# EAGLE library part TC2050-IDC-NL (library RoboJackets-Connectors)
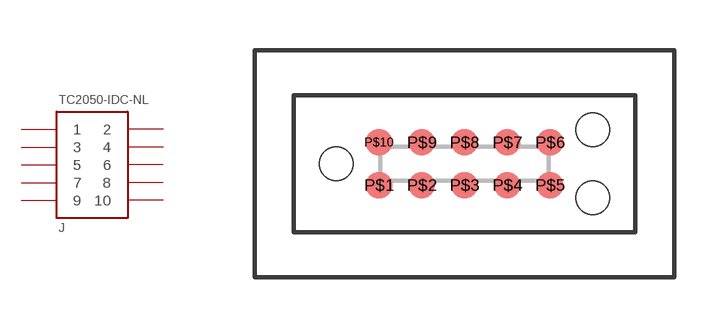
[diagram p16: symbol with the pads of TC2050-IDC-NL; footprint TC2050-IDC-NL]

Designator prefix J

## TC2050-IDC-NL  [TC2050-IDC-NL]
P$1  1
P$2  2
P$3  3
P$4  4
P$5  5
P$6  6
P$7  7
P$8  8
P$9  9
P$10  10

## Footprint TC2050-IDC-NL (pad centres in mm)
smd 0.787 x 0.787: P$1 -2.54,-0.635; P$2 -1.27,-0.635; P$3 0,-0.635; P$4 1.27,-0.635; P$5 2.54,-0.635; P$6 2.54,0.635; P$7 1.27,0.635; P$8 0,0.635; P$9 -1.27,0.635; P$10 -2.54,0.635
hole 0.991 at -3.81,0
hole 0.991 at 3.81,1.015
hole 0.991 at 3.81,-1.015